# Altium integrated library Altium_SMD_Resister.IntLib: 493 symbols (part 4 of 8)
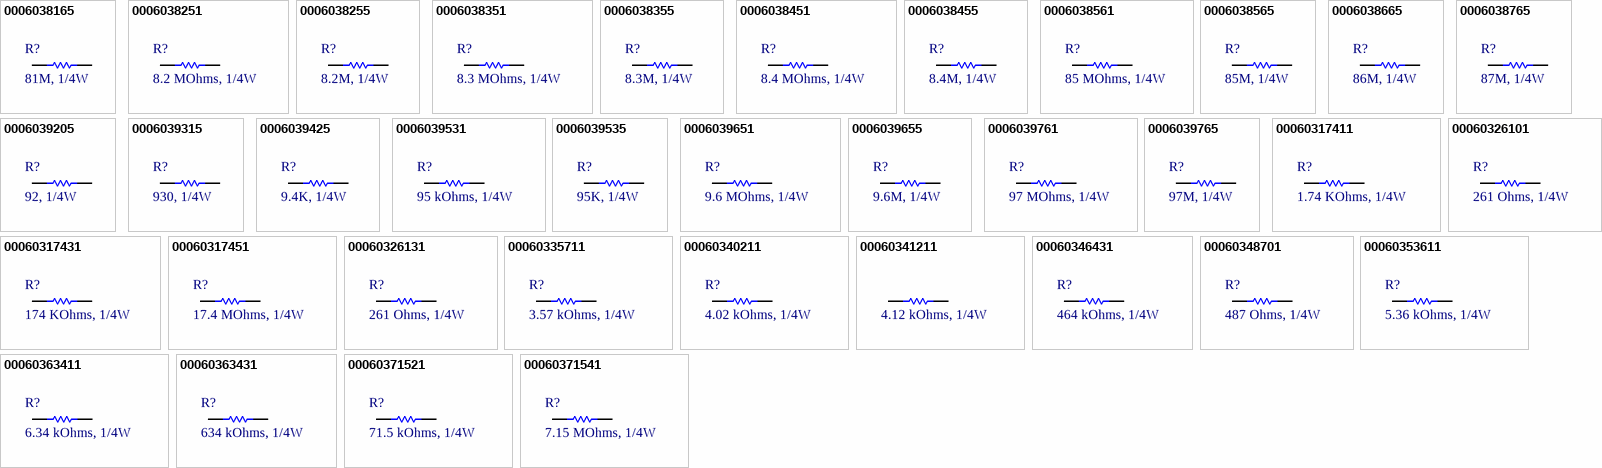
[diagram p15: symbols 0006038165 to 00060371541]

## 00060341211
designator ?, comment 4.12 kOhms, 1/4W
RES, 4.12 kOhms, size 0603, 1%; Manufacture  Name: OEM; Resistance: 4.12 k; Supply 1 Name: Mouser; Supply 1 SN: 71-CRCW0603-4.12K-E3; Supply 2 Name: Digi-Key; Supply 2 SN: 311-4.02KHRTR-ND; Supply 3 Name: Thegioiic; Resistance Tolerant: +/-1%; Size: 0603; Mounting Technology: SMT; Rated Power: 1/4 W; Datasheet: N/A; Supply 1 URL: https://www.mouser.vn/ProductDetail/Vishay-Dale/CRCW06034K12FKEA?qs=7VR27ARAOdnkRSfILZFcCQ%3D%3D; Supply 2 URL: https://www.digikey.com/en/products/detail/yageo/RC0603FR-074K02L/727203; Supply 3 SN: N/A; Supply 3 URL: N/A; Manufacture  SN: OEM
footprint resistor_0603
pins: 1, 2

## 00060346431
designator R?, comment 464 kOhms, 1/4W
RES, 464 kOhms, size 0603, 1%; Manufacture  Name: OEM; Resistance: 464 k; Supply 1 Name: Mouser; Supply 1 SN: 667-ERJ-PA3F4643V; Supply 2 Name: Digi-Key; Supply 2 SN: ERJ-PA3F4643V-ND - Tape & Reel (TR); Supply 3 Name: Thegioiic; Resistance Tolerant: +/-1%; Size: 0603; Mounting Technology: SMT; Rated Power: 1/4 W; Datasheet: https://www.mouser.vn/datasheet/2/315/AOA0000C331-1141874.pdf; Supply 1 URL: https://www.mouser.vn/ProductDetail/Panasonic/ERJ-PA3F4643V?qs=BzJM0faLVqXNplNA4jO3ww%3D%3D; Supply 2 URL: https://www.digikey.com/en/products/detail/panasonic-electronic-components/ERJ-PA3F4643V/5038117?s=N4IgTCBcDaIGxwOwFoCiAlAUsgCgQQGYAxAFjhIIDUQBdAXyA; Supply 3 SN: N/A; Supply 3 URL: N/A; Manufacture  SN: OEM
footprint resistor_0603
pins: 1, 2

## 00060348701
designator R?, comment 487 Ohms, 1/4W
RES, 487 Ohms, size 0603, 1%; Manufacture  Name: OEM; Resistance: 487; Supply 1 Name: Mouser; Supply 1 SN: 667-ERJ-PA3F4870V; Supply 2 Name: Digi-Key; Supply 2 SN: ERJ-PA3F4870V-ND - Tape & Reel (TR); Supply 3 Name: Thegioiic; Resistance Tolerant: +/-1%; Size: 0603; Mounting Technology: SMT; Rated Power: 1/4 W; Datasheet: https://www.mouser.vn/datasheet/2/315/AOA0000C331-1141874.pdf; Supply 1 URL: https://www.mouser.vn/ProductDetail/Panasonic/ERJ-PA3F4870V?qs=BzJM0faLVqXoF%252BFTbHdjOQ%3D%3D; Supply 2 URL: https://www.digikey.com/en/products/detail/panasonic-electronic-components/ERJ-PA3F4870V/5037849?s=N4IgTCBcDaIGxwOwFoCiAlAUsgCgQQGYAxAFgA5EAGANRAF0BfIA; Supply 3 SN: N/A; Supply 3 URL: N/A; Manufacture  SN: OEM
footprint resistor_0603
pins: 1, 2

## 00060353611
designator R?, comment 5.36 kOhms, 1/4W
RES, 5.36 kOhms, size 0603, 1%; Manufacture  Name: OEM; Resistance: 5.36 k; Supply 1 Name: Mouser; Supply 1 SN: 667-ERJ-PA3F5361V; Supply 2 Name: Digi-Key; Supply 2 SN: ERJ-PA3F5361V-ND - Tape & Reel (TR); Supply 3 Name: Thegioiic; Resistance Tolerant: +/-1%; Size: 0603; Mounting Technology: SMT; Rated Power: 1/4 W; Datasheet: https://www.mouser.vn/datasheet/2/315/AOA0000C331-1141874.pdf; Supply 1 URL: https://www.mouser.vn/ProductDetail/Panasonic/ERJ-PA3F5361V?qs=BzJM0faLVqV9HycZG6PMVQ%3D%3D; Supply 2 URL: https://www.digikey.com/en/products/detail/panasonic-electronic-components/ERJ-PA3F5361V/5037943?s=N4IgTCBcDaIGxwOwFoCiAlAUsgCgQQGYAxAVgLgEYA1EAXQF8g; Supply 3 SN: N/A; Supply 3 URL: N/A; Manufacture  SN: OEM
footprint resistor_0603
pins: 1, 2

## 00060363411
designator R?, comment 6.34 kOhms, 1/4W
RES, 6.34 kOhms, size 0603, 1%; Manufacture  Name: OEM; Resistance: 6.34 k; Supply 1 Name: Mouser; Supply 1 SN: 652-CR0805FX-6341ELF; Supply 2 Name: Digi-Key; Supply 2 SN: 311-6.34KHRTR-ND; Supply 3 Name: Thegioiic; Resistance Tolerant: +/-1%; Size: 0603; Mounting Technology: SMT; Rated Power: 1/4 W; Datasheet: N/A; Supply 1 URL: https://www.mouser.vn/ProductDetail/Bourns/CR0805-FX-6341ELF?qs=LA9FZBosJlAK7SMOW8nAHg%3D%3D; Supply 2 URL: https://www.digikey.com/en/products/detail/yageo/RC0603FR-076K34L/727320; Supply 3 SN: N/A; Supply 3 URL: N/A; Manufacture  SN: OEM
footprint resistor_0603
pins: 1, 2

## 00060363431
designator R?, comment 634 kOhms, 1/4W
RES, 634 kOhms, size 0603, 1%; Manufacture  Name: OEM; Resistance: 634 k; Supply 1 Name: Mouser; Supply 1 SN: 652-CR0805FX-6343ELF; Supply 2 Name: Digi-Key; Supply 2 SN: 311-634KHRTR-ND; Supply 3 Name: Thegioiic; Resistance Tolerant: +/-1%; Size: 0603; Mounting Technology: SMT; Rated Power: 1/4 W; Datasheet: N/A; Supply 1 URL: https://www.mouser.vn/ProductDetail/Bourns/CR0805-FX-6343ELF?qs=LA9FZBosJlBAKVRC2OUkqw%3D%3D; Supply 2 URL: https://www.digikey.com/en/products/detail/yageo/RC0603FR-07634KL/727342; Supply 3 SN: N/A; Supply 3 URL: N/A; Manufacture  SN: OEM
footprint resistor_0603
pins: 1, 2

## 00060371521
designator R?, comment 71.5 kOhms, 1/4W
RES, 71.5 kOhms, size 0603, 1%; Manufacture  Name: OEM; Resistance: 71.5 k; Supply 1 Name: Mouser; Supply 2 Name: Digi-Key; Supply 2 SN: 311-71.5KHRTR-ND; Supply 3 Name: Thegioiic; Resistance Tolerant: +/-1%; Size: 0603; Mounting Technology: SMT; Rated Power: 1/4 W; Datasheet: N/A; Supply 1 SN: N/A; Supply 1 URL: N/A; Supply 2 URL: https://www.digikey.com/en/products/detail/yageo/RC0603FR-0771K5L/727370; Supply 3 SN: N/A; Supply 3 URL: N/A; Manufacture  SN: OEM
footprint resistor_0603
pins: 1, 2

## 00060371541
designator R?, comment 7.15 MOhms, 1/4W
RES, 7.15 MOhms, size 0603, 1%; Manufacture  Name: OEM; Resistance: 7.15 M; Supply 1 Name: Mouser; Supply 1 SN: 603-RC0201FR-077M15L; Supply 2 Name: Digi-Key; Supply 2 SN: 541-7.15MHTR-ND; Supply 3 Name: Thegioiic; Resistance Tolerant: +/-1%; Size: 0603; Mounting Technology: SMT; Rated Power: 1/4 W; Datasheet: N/A; Supply 1 URL: https://www.mouser.vn/ProductDetail/YAGEO/RC0201FR-077M15L?qs=lc2O%252BfHJPVagYgggyyCiyg%3D%3D; Supply 2 URL: https://www.digikey.com/en/products/detail/vishay-dale/CRCW06037M15FKEA/1175108; Supply 3 SN: N/A; Supply 3 URL: N/A; Manufacture  SN: OEM
footprint resistor_0603
pins: 1, 2


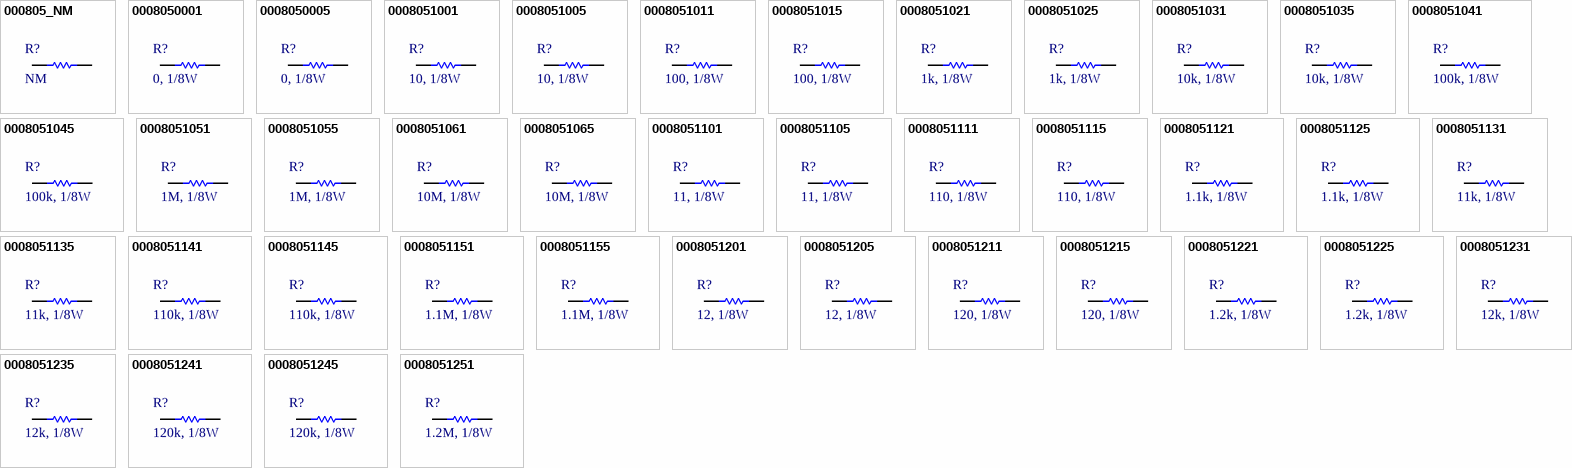
[diagram p6: symbols 000805_NM to 0008051251]

## 000805_NM
designator R?, comment NM
RES, NM, size 0805; Rated Power: 1/8 W; Supply 1 Name: Mouser; Supply 2 Name: Digi-Key; Supply 3 Name: Thegioiic; Resistance tolerance: N/A; Size: 0805; Mounting Technology: SMT; Datasheet: N/A; Resistance: N/A; Supply 1 SN: N/A; Supply 1 URL: N/A; Supply 2 SN: N/A; Supply 2 URL: N/A; Supply 3 SN: N/A; Supply 3 URL: N/A; Manufacture  Name: N/A; Manufacture  SN: N/A
footprint RESISTOR_0805 (Chip Resistor, 2-Leads, Body 2,00x1,20mm, IPC Medium Density)
pins: 1, 2

## 0008050001
designator R?, comment 0, 1/8W
RES, 0 Ohm, size 0805, 1%; Manufacture  Name: YAGEO; Manufacture  SN: RC0805FR-070RL; Resistance tolerance: +/-1%; Resistance: 0; Supply 1 Name: Mouser; Supply 1 SN: 603-RC0805FR-070RL; Supply 2 Name: Digi-Key; Supply 2 SN: 311-0.0CRTR-ND; Supply 3 Name: Thegioiic; Size: 0805; Mounting Technology: SMT; Rated Power: 1/8 W; Datasheet: N/A; Supply 1 URL: https://www.mouser.com/ProductDetail/YAGEO/RC0805FR-070RL?qs=fRxXYNj8ftF6kXqh1XbZJQ%3D%3D; Supply 2 URL: https://www.digikey.com/en/products/detail/yageo/rc0805fr-070rl/2827620; Supply 3 SN: N/A; Supply 3 URL: https://www.thegioiic.com/dien-tro-0-ohm-0805-1-
footprint RESISTOR_0805 (Chip Resistor, 2-Leads, Body 2,00x1,20mm, IPC Medium Density)
pins: 1, 2

## 0008050005
designator R?, comment 0, 1/8W
RES, 0 Ohm, size 0805, 5%; Manufacture  Name: YAGEO; Manufacture  SN: RC0805JR-070RL; Resistance tolerance: +/-1%; Resistance: 0; Supply 1 Name: Mouser; Supply 1 SN: 603-RC0805JR-070RL; Supply 2 Name: Digi-Key; Supply 2 SN: 311-0.0ARTR-ND; Supply 3 Name: Thegioiic; Size: 0805; Mounting Technology: SMT; Rated Power: 1/8 W; Datasheet: https://www.mouser.com/datasheet/2/447/PYu_AR_51_RoHS_L_7-3003081.pdf; Supply 1 URL: https://www.mouser.com/ProductDetail/YAGEO/RC0805JR-070RL?qs=3ldFlDWnkKyEhdaPjQHEFA%3D%3D; Supply 2 URL: https://www.digikey.com/en/products/detail/yageo/rc0805jr-070rl/728216; Supply 3 SN: N/A; Supply 3 URL: https://www.thegioiic.com/dien-tro-0-ohm-0805-5-
footprint RESISTOR_0805 (Chip Resistor, 2-Leads, Body 2,00x1,20mm, IPC Medium Density)
pins: 1, 2

## 0008051001
designator R?, comment 10, 1/8W
RES, 10 Ohm, size 0805, 1%; Manufacture  Name: Vishay Dale Thin Film; Manufacture  SN: M55342H06B10D0RT5; Resistance tolerance: +/-1%; Resistance: 10; Supply 1 Name: Mouser; Supply 1 SN: 71-CRCW080510R0FKEAH; Supply 2 Name: Digi-Key; Supply 2 SN: 764-M55342H06B10D0RT5TR-ND; Supply 3 Name: Thegioiic; Size: 0805; Mounting Technology: SMT; Rated Power: 1/8 W; Datasheet: https://www.vishay.com/docs/60018/eh.pdf; Supply 1 URL: https://www.mouser.vn/ProductDetail/Vishay-Dale/CRCW080510R0FKEAHP?qs=sGAEpiMZZMtlubZbdhIBIB2QTI7Ai3Wq221SUXRDybo%3D; Supply 2 URL: https://www.digikey.com/en/products/detail/vishay-dale-thin-film/M55342H06B10D0RT5/3580812; Supply 3 SN: N/A; Supply 3 URL: https://www.thegioiic.com/dien-tro-10-ohm-0805-1-
footprint RESISTOR_0805 (Chip Resistor, 2-Leads, Body 2,00x1,20mm, IPC Medium Density)
pins: 1, 2

## 0008051005
designator R?, comment 10, 1/8W
RES, 10 Ohm, size 0805, 5%; Manufacture  Name: TE Connectivity Passive Product; Manufacture  SN: CRGCQ0805J10R; Resistance tolerance: +/-5%; Resistance: 10; Supply 1 Name: Mouser; Supply 1 SN: 71-CRCW080510R0JNEB; Supply 2 Name: Digi-Key; Supply 2 SN: A130122TR-ND; Supply 3 Name: Thegioiic; Size: 0805; Mounting Technology: SMT; Rated Power: 1/8 W; Datasheet: https://www.te.com/usa-en/product-2176342-7.datasheet.pdf; Supply 1 URL: https://www.mouser.vn/ProductDetail/Vishay-Dale/CRCW080510R0JNEB?qs=LOX6nxTstiYdzgklIYN6GQ%3D%3D; Supply 2 URL: https://www.digikey.com/en/products/detail/vishay-dale-thin-film/M55342H06B10D0RT5/3580812; Supply 3 SN: N/A; Supply 3 URL: https://www.thegioiic.com/dien-tro-10-ohm-0805-5-
footprint RESISTOR_0805 (Chip Resistor, 2-Leads, Body 2,00x1,20mm, IPC Medium Density)
pins: 1, 2

## 0008051011
designator R?, comment 100, 1/8W
RES, 100 Ohm, size 0805, 1%; Manufacture  Name: Vishay Dale Thin Film; Manufacture  SN: CRCW0805100RFKEB; Resistance tolerance: +/-1%; Resistance: 100; Supply 1 Name: Mouser; Supply 1 SN: 71-CRCW0805100RFKEB; Supply 2 Name: Digi-Key; Supply 2 SN: Y1624100R000F9R-ND; Supply 3 Name: Thegioiic; Size: 0805; Mounting Technology: SMT; Rated Power: 1/8 W; Datasheet: https://media.digikey.com/pdf/Data%20Sheets/Vishay%20Resistors/VSMP_Series_Z_Series_DS.pdf; Supply 1 URL: https://www.mouser.vn/ProductDetail/Vishay-Dale/CRCW0805100RFKEB?qs=sGAEpiMZZMtlubZbdhIBIKpw3Cj3Rl3MFHVHXIgVmtw%3D; Supply 2 URL: https://www.digikey.com/en/products/detail/vpg-foil-resistors/Y1624100R000F9R/6026579; Supply 3 SN: N/A; Supply 3 URL: https://www.thegioiic.com/dien-tro-100-ohm-0805-1-
footprint RESISTOR_0805 (Chip Resistor, 2-Leads, Body 2,00x1,20mm, IPC Medium Density)
pins: 1, 2

## 0008051015
designator R?, comment 100, 1/8W
RES, 100 Ohm, size 0805, 5%; Manufacture  Name: Vishay Dale; Manufacture  SN: CRCW0805100RJNEAC; Resistance tolerance: +/-5%; Resistance: 100; Supply 1 Name: Mouser; Supply 1 SN: 71-CRCW0805100RJNEA; Supply 2 Name: Digi-Key; Supply 2 SN: 541-4166-2-ND; Supply 3 Name: Thegioiic; Size: 0805; Mounting Technology: SMT; Rated Power: 1/8 W; Datasheet: https://www.vishay.com/docs/28773/crcwce3.pdf; Supply 1 URL: https://www.mouser.vn/ProductDetail/Vishay-Dale/CRCW0805100RJNEA?qs=LOX6nxTstiYU5x3Np6dR5Q%3D%3D; Supply 2 URL: https://www.digikey.com/en/products/detail/vishay-dale/CRCW0805100RJNEAC/7928588; Supply 3 SN: N/A; Supply 3 URL: https://www.thegioiic.com/dien-tro-100-ohm-0805-5
footprint RESISTOR_0805 (Chip Resistor, 2-Leads, Body 2,00x1,20mm, IPC Medium Density)
pins: 1, 2

## 0008051021
designator R?, comment 1k, 1/8W
RES, 1k Ohm, size 0805, 1%; Manufacture  Name: Vishay Dale; Manufacture  SN: M55342K06B1E00RS3; Resistance tolerance: +/-1%; Supply 1 Name: Mouser; Supply 2 Name: Digi-Key; Supply 2 SN: 1135-1001-2-ND; Supply 3 Name: Thegioiic; Size: 0805; Mounting Technology: SMT; Rated Power: 1/8 W; Datasheet: https://www.vishay.com/docs/31010/rcwpm.pdf; Resistance: 1k; Supply 1 SN: N/A; Supply 1 URL: N/A; Supply 2 URL: https://www.digikey.com/en/products/detail/vishay-dale/M55342K06B1E00RS3/2941798; Supply 3 SN: N/A; Supply 3 URL: https://www.thegioiic.com/dien-tro-1-kohm-0805-1
footprint RESISTOR_0805 (Chip Resistor, 2-Leads, Body 2,00x1,20mm, IPC Medium Density)
pins: 1, 2

## 0008051025
designator R?, comment 1k, 1/8W
RES, 1k Ohm, size 0805, 5%; Manufacture  Name: Vishay Dale; Manufacture  SN: CRCW08051K00JNEAC; Resistance tolerance: +/-5%; Supply 1 Name: Mouser; Supply 1 SN: 71-CRCW08051K00JNEC; Supply 2 Name: Digi-Key; Supply 2 SN: 541-4162-2-ND; Supply 3 Name: Thegioiic; Size: 0805; Mounting Technology: SMT; Rated Power: 1/8 W; Datasheet: https://www.vishay.com/docs/28773/crcwce3.pdf; Resistance: 1k; Supply 1 URL: https://www.mouser.vn/ProductDetail/Vishay-Dale/CRCW08051K00JNEC?qs=OW6ROCK%252BaiZqKFsNe9zjFw%3D%3D; Supply 2 URL: https://www.digikey.com/en/products/detail/vishay-dale/CRCW08051K00JNEAC/7928584; Supply 3 SN: N/A; Supply 3 URL: https://www.thegioiic.com/dien-tro-1-kohm-0805-5-
footprint RESISTOR_0805 (Chip Resistor, 2-Leads, Body 2,00x1,20mm, IPC Medium Density)
pins: 1, 2

## 0008051031
designator R?, comment 10k, 1/8W
RES, 10k Ohm, size 0805, 1%; Resistance tolerance: +/-1%; Supply 1 Name: Mouser; Supply 2 Name: Digi-Key; Supply 3 Name: Thegioiic; Size: 0805; Mounting Technology: SMT; Rated Power: 1/8 W; Datasheet: N/A; Resistance: 10k; Supply 1 SN: N/A; Supply 1 URL: N/A; Supply 2 SN: N/A; Supply 2 URL: N/A; Supply 3 SN: N/A; Supply 3 URL: https://www.thegioiic.com/dien-tro-1-kohm-0805-1; Manufacture  Name: N/A; Manufacture  SN: N/A
footprint RESISTOR_0805 (Chip Resistor, 2-Leads, Body 2,00x1,20mm, IPC Medium Density)
pins: 1, 2

## 0008051035
designator R?, comment 10k, 1/8W
RES, 10k Ohm, size 0805, 5%; Manufacture  Name: Vishay Dale; Manufacture  SN: CRCW080510K0JNEAC; Resistance tolerance: +/-5%; Supply 1 Name: Mouser; Supply 1 SN: 71-CRCW080510K0JNEB; Supply 2 Name: Digi-Key; Supply 2 SN: 541-4163-2-ND; Supply 3 Name: Thegioiic; Size: 0805; Mounting Technology: SMT; Rated Power: 1/8 W; Datasheet: https://www.vishay.com/docs/28773/crcwce3.pdf; Resistance: 10k; Supply 1 URL: https://www.mouser.vn/ProductDetail/Vishay-Dale/CRCW080510K0JNEB?qs=LOX6nxTstiZ5fn9YUdHx5A%3D%3D; Supply 2 URL: https://www.digikey.com/en/products/detail/vishay-dale/CRCW080510K0JNEAC/7928585; Supply 3 SN: N/A; Supply 3 URL: N/A
footprint RESISTOR_0805 (Chip Resistor, 2-Leads, Body 2,00x1,20mm, IPC Medium Density)
pins: 1, 2

## 0008051041
designator R?, comment 100k, 1/8W
RES, 100k Ohm, size 0805, 1%; Manufacture  Name: Vishay Dale; Manufacture  SN: M55342K06B100ERS3; Resistance tolerance: +/-1%; Supply 1 Name: Mouser; Supply 2 Name: Digi-Key; Supply 2 SN: 1135-1002-2-ND; Supply 3 Name: Thegioiic; Size: 0805; Mounting Technology: SMT; Rated Power: 1/8 W; Datasheet: N/A; Resistance: 100k; Supply 1 SN: N/A; Supply 1 URL: N/A; Supply 2 URL: https://www.digikey.com/en/products/detail/vishay-dale/M55342K06B100ERS3/2941800; Supply 3 SN: N/A; Supply 3 URL: M55342K06B100ERS3
footprint RESISTOR_0805 (Chip Resistor, 2-Leads, Body 2,00x1,20mm, IPC Medium Density)
pins: 1, 2

## 0008051045
designator R?, comment 100k, 1/8W
RES, 100k Ohm, size 0805, 5%; Manufacture  Name: Vishay Dale; Manufacture  SN: CRCW0805100KJNEAC; Resistance tolerance: +/-5%; Supply 1 Name: Mouser; Supply 1 SN: 71-CRCW0805100KJNEC; Supply 2 Name: Digi-Key; Supply 2 SN: 541-4164-2-ND; Supply 3 Name: Thegioiic; Size: 0805; Mounting Technology: SMT; Rated Power: 1/8 W; Datasheet: https://www.vishay.com/docs/28773/crcwce3.pdf; Resistance: 100k; Supply 1 URL: https://www.mouser.vn/ProductDetail/Vishay-Dale/CRCW0805100KJNEC?qs=waxnFHLl2hDcBYyAQZ2bVA%3D%3D; Supply 2 URL: https://www.digikey.com/en/products/detail/vishay-dale/CRCW0805100KJNEAC/7928586; Supply 3 SN: N/A; Supply 3 URL: M55342K06B100ERS3
footprint RESISTOR_0805 (Chip Resistor, 2-Leads, Body 2,00x1,20mm, IPC Medium Density)
pins: 1, 2

## 0008051051
designator R?, comment 1M, 1/8W
RES, 1M Ohm, size 0805, 1%; Manufacture  Name: Vishay Dale; Manufacture  SN: M55342K06B1F00RS3; Resistance tolerance: +/-1%; Supply 1 Name: Mouser; Supply 2 Name: Digi-Key; Supply 2 SN: 1135-1009-2-ND; Supply 3 Name: Thegioiic; Size: 0805; Mounting Technology: SMT; Rated Power: 1/8 W; Datasheet: N/A; Resistance: 1M; Supply 1 SN: N/A; Supply 1 URL: N/A; Supply 2 URL: https://www.digikey.com/en/products/detail/vishay-dale/M55342K06B1F00RS3/2941807?s=N4IgjCBcoMxaBjKAzAhgGwM4FMA0IB7KAbXDBggF18AHAFyhAGU6AnASwDsBzEAX3xgAbPBBJIaLHkIkQMAJwwATPJDUQ9Riw49%2B%2BACwjoYlBhz4ikUgA4A7MrW0GkZmy68BIJQAZrAVlFxSXMZK3AAAgBZAHkACwBbTEcNZxAAVU52OmjkSOxUTABXVmx%2BPj4gA; Supply 3 SN: N/A; Supply 3 URL: https://www.thegioiic.com/dien-tro-1-mohm-0805-1
footprint RESISTOR_0805 (Chip Resistor, 2-Leads, Body 2,00x1,20mm, IPC Medium Density)
pins: 1, 2

## 0008051055
designator R?, comment 1M, 1/8W
RES, 1M Ohm, size 0805, 5%; Manufacture  Name: Vishay Dale; Manufacture  SN: CRCW08051M00JNEAC; Resistance tolerance: +/-5%; Supply 1 Name: Mouser; Supply 1 SN: 71-CRCW0805J-1M-E3; Supply 2 Name: Digi-Key; Supply 2 SN: 541-CRCW08051M00JNEACTR-ND; Supply 3 Name: Thegioiic; Size: 0805; Mounting Technology: SMT; Rated Power: 1/8 W; Datasheet: https://www.vishay.com/docs/28773/crcwce3.pdf; Resistance: 1M; Supply 1 URL: https://www.mouser.vn/ProductDetail/Vishay-Dale/CRCW08051M00JNEA?qs=1CkV0QOCgMqcQMPfmcgFvg%3D%3D; Supply 2 URL: https://www.digikey.com/en/products/detail/vishay-dale/CRCW08051M00JNEAC/7923683; Supply 3 SN: N/A; Supply 3 URL: https://www.thegioiic.com/dien-tro-1-mohm-0805-5
footprint RESISTOR_0805 (Chip Resistor, 2-Leads, Body 2,00x1,20mm, IPC Medium Density)
pins: 1, 2

## 0008051061
designator R?, comment 10M, 1/8W
RES, 10M Ohm, size 0805, 1%; Manufacture  Name: Vishay Dale; Manufacture  SN: CRCW08051M00FKEAC; Resistance tolerance: +/-1%; Supply 1 Name: Mouser; Supply 2 Name: Digi-Key; Supply 2 SN: 541-4135-2-ND; Supply 3 Name: Thegioiic; Size: 0805; Mounting Technology: SMT; Rated Power: 1/8 W; Datasheet: https://www.vishay.com/docs/28773/crcwce3.pdf; Resistance: 10M; Supply 1 SN: N/A; Supply 1 URL: N/A; Supply 2 URL: https://www.digikey.com/en/products/detail/vishay-dale/CRCW08051M00FKEAC/7928557; Supply 3 SN: N/A; Supply 3 URL: https://www.digikey.com/en/products/detail/vishay-dale/CRCW08051M00FKEAC/7928557
footprint RESISTOR_0805 (Chip Resistor, 2-Leads, Body 2,00x1,20mm, IPC Medium Density)
pins: 1, 2

## 0008051065
designator R?, comment 10M, 1/8W
RES, 10M Ohm, size 0805, 5%; Manufacture  Name: Vishay Dale; Manufacture  SN: CRCW080510M0JNEA; Resistance tolerance: +/-5%; Supply 1 Name: Mouser; Supply 1 SN: 71-RCV080510M0JNEA; Supply 2 Name: Digi-Key; Supply 2 SN: 541-10MATR-ND; Supply 3 Name: Thegioiic; Size: 0805; Mounting Technology: SMT; Rated Power: 1/8 W; Datasheet: https://www.vishay.com/docs/20035/dcrcwe3.pdf; Resistance: 10M; Supply 1 URL: https://www.mouser.vn/ProductDetail/Vishay-Draloric/RCV080510M0JNEA?qs=%252BZJHVReOaHr6BtmMLn%2FzAw%3D%3D; Supply 2 URL: https://www.digikey.com/en/products/detail/vishay-dale/CRCW080510M0JNEA/1175294; Supply 3 SN: N/A; Supply 3 URL: https://www.digikey.com/en/products/detail/vishay-dale/CRCW080510M0JNEA/1175294
footprint RESISTOR_0805 (Chip Resistor, 2-Leads, Body 2,00x1,20mm, IPC Medium Density)
pins: 1, 2

## 0008051101
designator R?, comment 11, 1/8W
RES, 11 Ohm, size 0805, 1%; Manufacture  Name: Vishay Dale; Manufacture  SN: CRCW080511R0FKTA; Resistance tolerance: +/-1%; Resistance: 11; Supply 1 Name: Mouser; Supply 1 SN: 71-CRCW0805-11; Supply 2 Name: Digi-Key; Supply 2 SN: 541-11.0CTR-ND; Supply 3 Name: Thegioiic; Size: 0805; Mounting Technology: SMT; Rated Power: 1/8 W; Datasheet: https://www.vishay.com/docs/20035/dcrcwe3.pdf; Supply 1 URL: https://www.mouser.vn/ProductDetail/Vishay-Dale/CRCW080511R0FKTA?qs=ZOFh%252BZEbFTDhCA9Hrh30Zw%3D%3D; Supply 2 URL: https://www.digikey.com/en/products/detail/vishay-dale/CRCW080511R0FKEA/1175413; Supply 3 SN: N/A; Supply 3 URL: N/A
footprint RESISTOR_0805 (Chip Resistor, 2-Leads, Body 2,00x1,20mm, IPC Medium Density)
pins: 1, 2

## 0008051105
designator R?, comment 11, 1/8W
RES, 11 Ohm, size 0805, 5%; Manufacture  Name: Vishay Dale; Manufacture  SN: CRCW080511R0JNEAC; Resistance tolerance: +/-5%; Resistance: 11; Supply 1 Name: Mouser; Supply 1 SN: 71-CRCW080511R0JNEA; Supply 2 Name: Digi-Key; Supply 2 SN: CRCW080511R0JNEAC-ND; Supply 3 Name: Thegioiic; Size: 0805; Mounting Technology: SMT; Rated Power: 1/8 W; Datasheet: https://www.vishay.com/docs/28773/crcwce3.pdf; Supply 1 URL: https://www.mouser.vn/ProductDetail/Vishay-Dale/CRCW080511R0JNEA?qs=RG5hTW80OZI1ijzqZ4Fwzg%3D%3D; Supply 2 URL: https://www.digikey.com/en/products/detail/vishay-dale/CRCW080511R0JNEAC/7923816; Supply 3 SN: N/A; Supply 3 URL: https://www.thegioiic.com/dien-tro-11-ohm-0805-5-
footprint RESISTOR_0805 (Chip Resistor, 2-Leads, Body 2,00x1,20mm, IPC Medium Density)
pins: 1, 2

## 0008051111
designator R?, comment 110, 1/8W
RES, 110 Ohm, size 0805, 1%; Manufacture  Name: Vishay Dale; Manufacture  SN: CRCW0805110RFKEA; Resistance tolerance: +/-1%; Resistance: 110; Supply 1 Name: Mouser; Supply 1 SN: 71-CRCW0805110RFKEAC; Supply 2 Name: Digi-Key; Supply 2 SN: 541-110CTR-ND; Supply 3 Name: Thegioiic; Size: 0805; Mounting Technology: SMT; Rated Power: 1/8 W; Datasheet: https://www.vishay.com/docs/20035/dcrcwe3.pdf; Supply 1 URL: https://www.mouser.vn/ProductDetail/Vishay-Dale/CRCW0805110RFKEAC?qs=E3Y5ESvWgWMNpf%252BYjZabPQ%3D%3D; Supply 2 URL: https://www.digikey.com/en/products/detail/vishay-dale/CRCW0805110RFKEA/1175527; Supply 3 SN: N/A; Supply 3 URL: N/A
footprint RESISTOR_0805 (Chip Resistor, 2-Leads, Body 2,00x1,20mm, IPC Medium Density)
pins: 1, 2

## 0008051115
designator R?, comment 110, 1/8W
RES, 110 Ohm, size 0805, 5%; Manufacture  Name: Vishay Dale; Manufacture  SN: CRCW0805110RFKEA; Resistance tolerance: +/-5%; Resistance: 110; Supply 1 Name: Mouser; Supply 1 SN: 71-CRCW0805110RJNEA; Supply 2 Name: Digi-Key; Supply 2 SN: 541-110ATR-ND; Supply 3 Name: Thegioiic; Size: 0805; Mounting Technology: SMT; Rated Power: 1/8 W; Datasheet: https://www.vishay.com/docs/20035/dcrcwe3.pdf; Supply 1 URL: https://www.mouser.vn/ProductDetail/Vishay-Dale/CRCW0805110RJNEA?qs=RG5hTW80OZJqHt0GVT%2FlyA%3D%3D; Supply 2 URL: https://www.digikey.com/en/products/detail/vishay-dale/CRCW0805110RJNEA/1175175; Supply 3 SN: N/A; Supply 3 URL: https://www.thegioiic.com/dien-tro-110-kohm-0805-5
footprint RESISTOR_0805 (Chip Resistor, 2-Leads, Body 2,00x1,20mm, IPC Medium Density)
pins: 1, 2

## 0008051121
designator R?, comment 1.1k, 1/8W
RES, 1.1k Ohm, size 0805, 1%; Manufacture  Name: Vishay Dale; Manufacture  SN: CRCW08051K10FKEAC; Resistance tolerance: +/-1%; Supply 1 Name: Mouser; Supply 1 SN: 71-CRCW0805-1.1K; Supply 2 Name: Digi-Key; Supply 2 SN: 541-CRCW08051K10FKEACTR-ND; Supply 3 Name: Thegioiic; Size: 0805; Mounting Technology: SMT; Rated Power: 1/8 W; Datasheet: https://www.vishay.com/docs/28773/crcwce3.pdf; Resistance: 1.1k; Supply 1 URL: https://www.mouser.vn/ProductDetail/Vishay-Dale/CRCW08051K10FKTA?qs=kcr0bk%252BxakCLwlR%2FUomifg%3D%3D; Supply 2 URL: https://www.digikey.com/en/products/detail/vishay-dale/CRCW08051K10FKEAC/7922296; Supply 3 SN: N/A; Supply 3 URL: N/A
footprint RESISTOR_0805 (Chip Resistor, 2-Leads, Body 2,00x1,20mm, IPC Medium Density)
pins: 1, 2

## 0008051125
designator R?, comment 1.1k, 1/8W
RES, 1.1k Ohm, size 0805, 5%; Manufacture  Name: Vishay Dale; Manufacture  SN: CRCW08051K10JNEA; Resistance tolerance: +/-5%; Supply 1 Name: Mouser; Supply 1 SN: 71-CRCW08051K10JNEA; Supply 2 Name: Digi-Key; Supply 2 SN: 541-1.1KATR-ND; Supply 3 Name: Thegioiic; Size: 0805; Mounting Technology: SMT; Rated Power: 1/8 W; Datasheet: https://www.vishay.com/docs/28773/crcwce3.pdf; Resistance: 1.1k; Supply 1 URL: https://www.mouser.vn/ProductDetail/Vishay-Dale/CRCW08051K10JNEA?qs=DZvKvnD5UYUcTcO5Q3S%252BBw%3D%3D; Supply 2 URL: https://www.digikey.com/en/products/detail/vishay-dale/CRCW08051K10JNEA/1175199; Supply 3 SN: N/A; Supply 3 URL: https://www.thegioiic.com/dien-tro-1-1-kohm-0805-5
footprint RESISTOR_0805 (Chip Resistor, 2-Leads, Body 2,00x1,20mm, IPC Medium Density)
pins: 1, 2

## 0008051131
designator R?, comment 11k, 1/8W
RES, 11k Ohm, size 0805, 1%; Manufacture  Name: Vishay Dale; Manufacture  SN: CRCW080511K0FKEA; Resistance tolerance: +/-1%; Supply 1 Name: Mouser; Supply 1 SN: 71-CRCW0805-11K-E3; Supply 2 Name: Digi-Key; Supply 2 SN: 541-11.0KCTR-ND; Supply 3 Name: Thegioiic; Size: 0805; Mounting Technology: SMT; Rated Power: 1/8 W; Datasheet: N/A; Resistance: 11k; Supply 1 URL: https://www.mouser.vn/ProductDetail/Vishay-Dale/CRCW080511K0FKEA?qs=RG5hTW80OZLEp%2FQ5LVKZyw%3D%3D; Supply 2 URL: https://www.digikey.com/en/products/detail/vishay-dale/CRCW080511K0FKEA/1175755; Supply 3 SN: N/A; Supply 3 URL: N/A
footprint RESISTOR_0805 (Chip Resistor, 2-Leads, Body 2,00x1,20mm, IPC Medium Density)
pins: 1, 2

## 0008051135
designator R?, comment 11k, 1/8W
RES, 11k Ohm, size 0805, 5%; Manufacture  Name: Vishay Dale; Manufacture  SN: CRCW080511K0JNEA; Resistance tolerance: +/-5%; Supply 1 Name: Mouser; Supply 1 SN: 71-CRCW0805J-11K-E3; Supply 2 Name: Digi-Key; Supply 2 SN: 541-11KATR-ND; Supply 3 Name: Thegioiic; Size: 0805; Mounting Technology: SMT; Rated Power: 1/8 W; Datasheet: https://www.vishay.com/docs/20035/dcrcwe3.pdf; Resistance: 11k; Supply 1 URL: https://www.mouser.vn/ProductDetail/Vishay-Dale/CRCW080511K0JNEA?qs=RG5hTW80OZLjmZsjWPwJOg%3D%3D; Supply 2 URL: https://www.digikey.com/en/products/detail/vishay-dale/CRCW080511K0JNEA/1175223; Supply 3 SN: N/A; Supply 3 URL: https://www.thegioiic.com/dien-tro-11-kohm-0805-5
footprint RESISTOR_0805 (Chip Resistor, 2-Leads, Body 2,00x1,20mm, IPC Medium Density)
pins: 1, 2

## 0008051141
designator R?, comment 110k, 1/8W
RES, 110k Ohm, size 0805, 1%; Manufacture  Name: Vishay Dale; Manufacture  SN: CRCW0805110KFKEAC; Resistance tolerance: +/-1%; Supply 1 Name: Mouser; Supply 1 SN: 71-CRCW0805-110K; Supply 2 Name: Digi-Key; Supply 2 SN: 541-CRCW0805110KFKEACTR-ND; Supply 3 Name: Thegioiic; Size: 0805; Mounting Technology: SMT; Rated Power: 1/8 W; Datasheet: https://www.vishay.com/docs/28773/crcwce3.pdf; Resistance: 110k; Supply 1 URL: https://www.mouser.vn/ProductDetail/Vishay-Dale/CRCW0805110KFKTA?qs=lAAKfumqcshWZsupBauqGw%3D%3D; Supply 2 URL: https://www.digikey.com/en/products/detail/vishay-dale/CRCW0805110KFKEAC/7922420; Supply 3 SN: N/A; Supply 3 URL: https://www.thegioiic.com/dien-tro-110-kohm-0805-1-
footprint RESISTOR_0805 (Chip Resistor, 2-Leads, Body 2,00x1,20mm, IPC Medium Density)
pins: 1, 2

## 0008051145
designator R?, comment 110k, 1/8W
RES, 110k Ohm, size 0805, 5%; Manufacture  Name: Vishay Dale; Manufacture  SN: CRCW0805110KJNEAC; Resistance tolerance: +/-5%; Supply 1 Name: Mouser; Supply 1 SN: 71-CRCW0805110KJNEA; Supply 2 Name: Digi-Key; Supply 2 SN: CRCW0805110KJNEAC-ND; Supply 3 Name: Thegioiic; Size: 0805; Mounting Technology: SMT; Rated Power: 1/8 W; Datasheet: https://www.vishay.com/docs/28773/crcwce3.pdf; Resistance: 110k; Supply 1 URL: https://www.mouser.vn/ProductDetail/Vishay-Dale/CRCW0805110KJNEA?qs=LOX6nxTstiYWgn0ISge4KA%3D%3D; Supply 2 URL: https://www.digikey.com/en/products/detail/vishay-dale/CRCW0805110KJNEAC/7923811; Supply 3 SN: N/A; Supply 3 URL: https://www.thegioiic.com/dien-tro-110-kohm-0805-5
footprint RESISTOR_0805 (Chip Resistor, 2-Leads, Body 2,00x1,20mm, IPC Medium Density)
pins: 1, 2

## 0008051151
designator R?, comment 1.1M, 1/8W
RES, 1.1M Ohm, size 0805, 1%; Manufacture  Name: Vishay Dale; Manufacture  SN: CRCW08051M10FKEA; Resistance tolerance: +/-1%; Supply 1 Name: Mouser; Supply 1 SN: 71-CRCW08051M10FKEA; Supply 2 Name: Digi-Key; Supply 2 SN: 541-1.10MCTR-ND; Supply 3 Name: Thegioiic; Size: 0805; Mounting Technology: SMT; Rated Power: 1/8 W; Datasheet: https://www.vishay.com/docs/20035/dcrcwe3.pdf; Resistance: 1.1M; Supply 1 URL: https://www.mouser.vn/ProductDetail/Vishay-Dale/CRCW08051M10FKEA?qs=1CkV0QOCgMonU8HVfJOxww%3D%3D; Supply 2 URL: https://www.digikey.com/en/products/detail/vishay-dale/CRCW08051M10FKEA/1176020; Supply 3 SN: N/A; Supply 3 URL: N/A
footprint RESISTOR_0805 (Chip Resistor, 2-Leads, Body 2,00x1,20mm, IPC Medium Density)
pins: 1, 2

## 0008051155
designator R?, comment 1.1M, 1/8W
RES, 1.1M Ohm, size 0805, 5%; Manufacture  Name: Vishay Dale; Manufacture  SN: CRCW08051M10JNEAC; Resistance tolerance: +/-5%; Supply 1 Name: Mouser; Supply 1 SN: 71-CRCW0805J-1.1M; Supply 2 Name: Digi-Key; Supply 2 SN: CRCW08051M10JNEAC-ND; Supply 3 Name: Thegioiic; Size: 0805; Mounting Technology: SMT; Rated Power: 1/8 W; Datasheet: https://www.vishay.com/docs/28773/crcwce3.pdf; Resistance: 1.1M; Supply 1 URL: https://www.mouser.vn/ProductDetail/Vishay-Dale/CRCW08051M10JNTA?qs=5w%2FwobBlTbKF7Ocr2yYivA%3D%3D; Supply 2 URL: https://www.digikey.com/en/products/detail/vishay-dale/CRCW08051M10JNEAC/7923848; Supply 3 SN: N/A; Supply 3 URL: https://www.thegioiic.com/dien-tro-1-1-mohm-0805-5
footprint RESISTOR_0805 (Chip Resistor, 2-Leads, Body 2,00x1,20mm, IPC Medium Density)
pins: 1, 2

## 0008051201
designator R?, comment 12, 1/8W
RES, 12 Ohm, size 0805, 1%; Manufacture  Name: Vishay Dale; Manufacture  SN: CRCW080512R0FKEA; Resistance tolerance: +/-1%; Resistance: 12; Supply 1 Name: Mouser; Supply 1 SN: 71-CRCW080512R0FKEA; Supply 2 Name: Digi-Key; Supply 2 SN: 541-12.0CTR-ND; Supply 3 Name: Thegioiic; Size: 0805; Mounting Technology: SMT; Rated Power: 1/8 W; Datasheet: N/A; Supply 1 URL: https://www.mouser.vn/ProductDetail/Vishay-Dale/CRCW080512R0FKEA?qs=0y7Riw94L4im3ZmXAo%252BFfQ%3D%3D; Supply 2 URL: https://www.digikey.com/en/products/detail/vishay-dale/CRCW080512R0FKEA/1175417; Supply 3 SN: N/A; Supply 3 URL: https://www.thegioiic.com/dien-tro-12-ohm-0805-1-
footprint RESISTOR_0805 (Chip Resistor, 2-Leads, Body 2,00x1,20mm, IPC Medium Density)
pins: 1, 2

## 0008051205
designator R?, comment 12, 1/8W
RES, 12 Ohm, size 0805, 5%; Manufacture  Name: Vishay Dale; Manufacture  SN: CRCW080512R0JNEA; Resistance tolerance: +/-5%; Resistance: 12; Supply 1 Name: Mouser; Supply 1 SN: 71-CRCW080512R0JNEA; Supply 2 Name: Digi-Key; Supply 2 SN: 541-12ATR-ND; Supply 3 Name: Thegioiic; Size: 0805; Mounting Technology: SMT; Rated Power: 1/8 W; Datasheet: https://www.vishay.com/docs/20035/dcrcwe3.pdf; Supply 1 URL: https://www.mouser.vn/ProductDetail/Vishay-Dale/CRCW080512R0JNEA?qs=0y7Riw94L4hpzrfVlTNTMg%3D%3D; Supply 2 URL: https://www.digikey.com/en/products/detail/vishay-dale/CRCW080512R0JNEA/1175152; Supply 3 SN: N/A; Supply 3 URL: https://www.thegioiic.com/dien-tro-1-1-mohm-0805-5
footprint RESISTOR_0805 (Chip Resistor, 2-Leads, Body 2,00x1,20mm, IPC Medium Density)
pins: 1, 2

## 0008051211
designator R?, comment 120, 1/8W
RES, 120 Ohm, size 0805, 1%; Manufacture  Name: Vishay Dale; Manufacture  SN: CRCW0805120RFKEAC; Resistance tolerance: +/-1%; Resistance: 120; Supply 1 Name: Mouser; Supply 1 SN: 71-CRCW0805120RFKEAC; Supply 2 Name: Digi-Key; Supply 2 SN: 541-CRCW0805120RFKEACTR-ND; Supply 3 Name: Thegioiic; Size: 0805; Mounting Technology: SMT; Rated Power: 1/8 W; Datasheet: https://www.vishay.com/docs/28773/crcwce3.pdf; Supply 1 URL: https://www.mouser.vn/ProductDetail/Vishay-Dale/CRCW0805120RFKEAC?qs=E3Y5ESvWgWNkSFxCW%252BJprQ%3D%3D; Supply 2 URL: https://www.digikey.com/en/products/detail/vishay-dale/CRCW0805120RFKEAC/7922316; Supply 3 SN: N/A; Supply 3 URL: N/A
footprint RESISTOR_0805 (Chip Resistor, 2-Leads, Body 2,00x1,20mm, IPC Medium Density)
pins: 1, 2

## 0008051215
designator R?, comment 120, 1/8W
RES, 120 Ohm, size 0805, 5%; Manufacture  Name: Vishay Dale; Manufacture  SN: CRCW0805120RJNEA; Resistance tolerance: +/-5%; Resistance: 120; Supply 1 Name: Mouser; Supply 1 SN: 71-CRCW0805120RJNEA; Supply 2 Name: Digi-Key; Supply 2 SN: 541-120ATR-ND; Supply 3 Name: Thegioiic; Size: 0805; Mounting Technology: SMT; Rated Power: 1/8 W; Datasheet: https://www.vishay.com/docs/20035/dcrcwe3.pdf; Supply 1 URL: https://www.mouser.vn/ProductDetail/Vishay-Dale/CRCW0805120RJNEA?qs=RG5hTW80OZL%252BSuUGN6l0YA%3D%3D; Supply 2 URL: https://www.digikey.com/en/products/detail/vishay-dale/CRCW0805120RJNEA/1175176; Supply 3 SN: N/A; Supply 3 URL: https://www.thegioiic.com/dien-tro-120-ohm-0805-5-
footprint RESISTOR_0805 (Chip Resistor, 2-Leads, Body 2,00x1,20mm, IPC Medium Density)
pins: 1, 2

## 0008051221
designator R?, comment 1.2k, 1/8W
RES, 1.2k Ohm, size 0805, 1%; Manufacture  Name: Vishay Dale; Manufacture  SN: CRCW08051K20FKEAC; Resistance tolerance: +/-1%; Supply 1 Name: Mouser; Supply 1 SN: 71-CRCW0805-1.2K; Supply 2 Name: Digi-Key; Supply 2 SN: 541-CRCW08051K20FKEACTR-ND; Supply 3 Name: Thegioiic; Size: 0805; Mounting Technology: SMT; Rated Power: 1/8 W; Datasheet: https://www.vishay.com/docs/28773/crcwce3.pdf; Resistance: 1.2k; Supply 1 URL: https://www.mouser.vn/ProductDetail/Vishay-Dale/CRCW08051K20FKTA?qs=xLmuQgtoMPPFT9OsB3td2Q%3D%3D; Supply 2 URL: https://www.digikey.com/en/products/detail/vishay-dale/CRCW08051K20FKEAC/7922327; Supply 3 SN: N/A; Supply 3 URL: https://www.thegioiic.com/dien-tro-1-2-kohm-0805-1-
footprint RESISTOR_0805 (Chip Resistor, 2-Leads, Body 2,00x1,20mm, IPC Medium Density)
pins: 1, 2

## 0008051225
designator R?, comment 1.2k, 1/8W
RES, 1.2k Ohm, size 0805, 5%; Manufacture  Name: Vishay Dale; Manufacture  SN: CRCW08051K20JNEA; Resistance tolerance: +/-5%; Supply 1 Name: Mouser; Supply 1 SN: 71-CRCW0805J-1.2K; Supply 2 Name: Digi-Key; Supply 2 SN: 541-1.2KATR-ND; Supply 3 Name: Thegioiic; Size: 0805; Mounting Technology: SMT; Rated Power: 1/8 W; Datasheet: https://www.vishay.com/docs/20035/dcrcwe3.pdf; Resistance: 1.2k; Supply 1 URL: https://www.mouser.vn/ProductDetail/Vishay-Dale/CRCW08051K20JNTA?qs=ihJ2iVknB9v1dN2NZA89OA%3D%3D; Supply 2 URL: https://www.digikey.com/en/products/detail/vishay-dale/CRCW08051K20JNEA/1175200; Supply 3 SN: N/A; Supply 3 URL: https://www.thegioiic.com/dien-tro-1-2-kohm-0805-5
footprint RESISTOR_0805 (Chip Resistor, 2-Leads, Body 2,00x1,20mm, IPC Medium Density)
pins: 1, 2

## 0008051231
designator R?, comment 12k, 1/8W
RES, 12k Ohm, size 0805, 1%; Manufacture  Name: Vishay Dale; Manufacture  SN: CRCW080512K0FKEAC; Resistance tolerance: +/-1%; Supply 1 Name: Mouser; Supply 1 SN: 71-CRCW080512K0FKEA; Supply 2 Name: Digi-Key; Supply 2 SN: 541-CRCW080512K0FKEACTR-ND; Supply 3 Name: Thegioiic; Size: 0805; Mounting Technology: SMT; Rated Power: 1/8 W; Datasheet: https://www.vishay.com/docs/28773/crcwce3.pdf; Resistance: 12k; Supply 1 URL: https://www.mouser.vn/ProductDetail/Vishay-Dale/CRCW080512K0FKEA?qs=0y7Riw94L4gQIm4gt5oa2A%3D%3D; Supply 2 URL: https://www.digikey.com/en/products/detail/vishay-dale/CRCW080512K0FKEAC/7922348; Supply 3 SN: N/A; Supply 3 URL: https://www.thegioiic.com/dien-tro-12-kohm-0805-1
footprint RESISTOR_0805 (Chip Resistor, 2-Leads, Body 2,00x1,20mm, IPC Medium Density)
pins: 1, 2

## 0008051235
designator R?, comment 12k, 1/8W
RES, 12k Ohm, size 0805, 5%; Manufacture  Name: Vishay Dale; Manufacture  SN: CRCW080512K0FKEAC; Resistance tolerance: +/-5%; Supply 1 Name: Mouser; Supply 1 SN: 71-CRCW080512K0JNEA; Supply 2 Name: Digi-Key; Supply 2 SN: 541-12KATR-ND; Supply 3 Name: Thegioiic; Size: 0805; Mounting Technology: SMT; Rated Power: 1/8 W; Datasheet: https://www.vishay.com/docs/20035/dcrcwe3.pdf; Resistance: 12k; Supply 1 URL: https://www.mouser.vn/ProductDetail/Vishay-Dale/CRCW080512K0JNEA?qs=0y7Riw94L4j20XDG43nIlg%3D%3D; Supply 2 URL: https://www.digikey.com/en/products/detail/vishay-dale/CRCW080512K0JNEA/1175224; Supply 3 SN: N/A; Supply 3 URL: https://www.vishay.com/docs/20035/dcrcwe3.pdf
footprint RESISTOR_0805 (Chip Resistor, 2-Leads, Body 2,00x1,20mm, IPC Medium Density)
pins: 1, 2

## 0008051241
designator R?, comment 120k, 1/8W
RES, 120k Ohm, size 0805, 1%; Manufacture  Name: Vishay Dale; Manufacture  SN: CRCW0805120KFKEB; Resistance tolerance: +/-1%; Supply 1 Name: Mouser; Supply 1 SN: 71-CRCW0805120KFKEAC; Supply 2 Name: Digi-Key; Supply 2 SN: 541-CRCW0805120KFKEBTR-ND; Supply 3 Name: Thegioiic; Size: 0805; Mounting Technology: SMT; Rated Power: 1/8 W; Datasheet: https://www.vishay.com/docs/20035/dcrcwe3.pdf; Resistance: 120k; Supply 1 URL: https://www.mouser.vn/ProductDetail/Vishay-Dale/CRCW0805120KFKEAC?qs=E3Y5ESvWgWPz1L64z3fNYQ%3D%3D; Supply 2 URL: https://www.digikey.com/en/products/detail/vishay-dale/CRCW0805120KFKEB/5073706; Supply 3 SN: N/A; Supply 3 URL: N/A
footprint RESISTOR_0805 (Chip Resistor, 2-Leads, Body 2,00x1,20mm, IPC Medium Density)
pins: 1, 2

## 0008051245
designator R?, comment 120k, 1/8W
RES, 120k Ohm, size 0805, 5%; Manufacture  Name: Vishay Dale; Manufacture  SN: CRCW0805120KJNEA; Resistance tolerance: +/-5%; Supply 1 Name: Mouser; Supply 1 SN: 71-CRCW0805120KJNEA; Supply 2 Name: Digi-Key; Supply 2 SN: 541-120KATR-ND; Supply 3 Name: Thegioiic; Size: 0805; Mounting Technology: SMT; Rated Power: 1/8 W; Datasheet: https://www.vishay.com/docs/20035/dcrcwe3.pdf; Resistance: 120k; Supply 1 URL: https://www.mouser.vn/ProductDetail/Vishay-Dale/CRCW0805120KJNEA?qs=RG5hTW80OZISYDThER7IDg%3D%3D; Supply 2 URL: https://www.digikey.com/en/products/detail/vishay-dale/CRCW0805120KJNEA/1175248; Supply 3 SN: N/A; Supply 3 URL: https://www.thegioiic.com/dien-tro-120-kohm-0805-5
footprint RESISTOR_0805 (Chip Resistor, 2-Leads, Body 2,00x1,20mm, IPC Medium Density)
pins: 1, 2

## 0008051251
designator R?, comment 1.2M, 1/8W
RES, 1.2M Ohm, size 0805, 1%; Manufacture  Name: Vishay Dale; Manufacture  SN: CRCW08051M20FKEA; Resistance tolerance: +/-1%; Supply 1 Name: Mouser; Supply 1 SN: 71-CRCW08051M20FKEA; Supply 2 Name: Digi-Key; Supply 2 SN: 541-1.20MCTR-ND; Supply 3 Name: Thegioiic; Size: 0805; Mounting Technology: SMT; Rated Power: 1/8 W; Datasheet: https://www.vishay.com/docs/20035/dcrcwe3.pdf; Resistance: 1.2M; Supply 1 URL: https://www.mouser.vn/ProductDetail/Vishay-Dale/CRCW08051M20FKEA?qs=uQdQW2oKfUVC5dKjGtshLg%3D%3D; Supply 2 URL: https://www.digikey.com/en/products/detail/vishay-dale/CRCW08051M20FKEA/1176024; Supply 3 SN: N/A; Supply 3 URL: N/A
footprint RESISTOR_0805 (Chip Resistor, 2-Leads, Body 2,00x1,20mm, IPC Medium Density)
pins: 1, 2

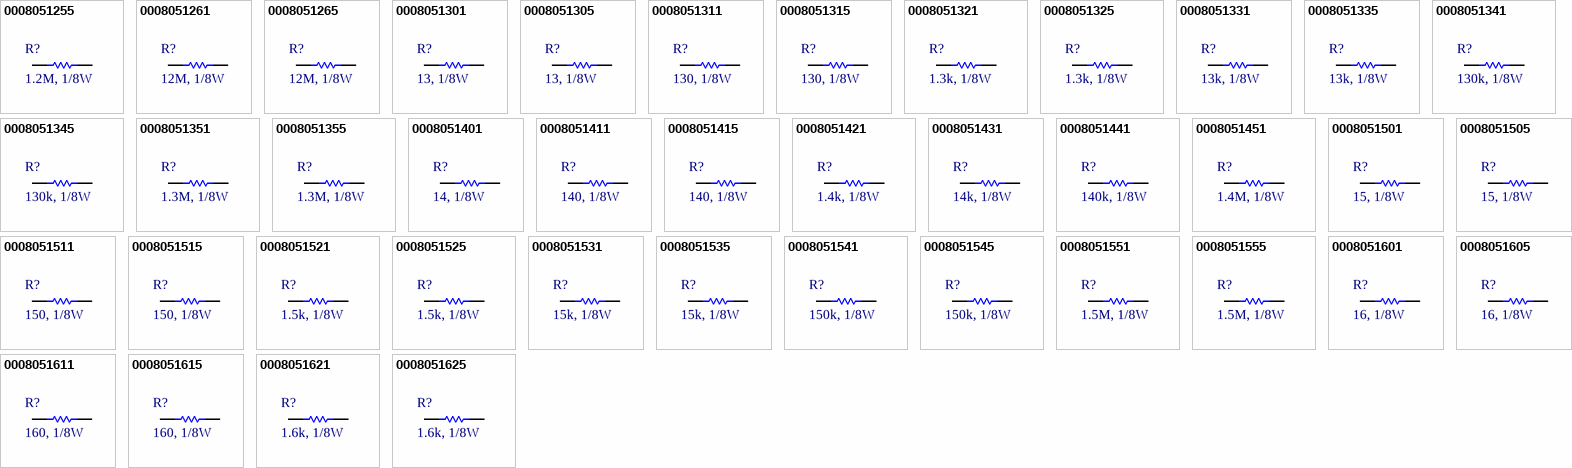
[diagram p7: symbols 0008051255 to 0008051625]

## 0008051255
designator R?, comment 1.2M, 1/8W
RES, 1.2M Ohm, size 0805, 5%; Manufacture  Name: Vishay Dale; Manufacture  SN: CRCW08051M20JNEA; Resistance tolerance: +/-5%; Supply 1 Name: Mouser; Supply 1 SN: 71-CRCW08051M20JNEA; Supply 2 Name: Digi-Key; Supply 2 SN: 541-1.2MATR-ND; Supply 3 Name: Thegioiic; Size: 0805; Mounting Technology: SMT; Rated Power: 1/8 W; Datasheet: https://www.vishay.com/docs/20035/dcrcwe3.pdf; Resistance: 1.2M; Supply 1 URL: https://www.mouser.vn/ProductDetail/Vishay-Dale/CRCW08051M20JNEA?qs=1CkV0QOCgMrKOwOc4yedvw%3D%3D; Supply 2 URL: https://www.digikey.com/en/products/detail/vishay-dale/CRCW08051M20JNEA/1175272; Supply 3 SN: N/A; Supply 3 URL: https://www.thegioiic.com/dien-tro-1-2-mohm-0805-5
footprint RESISTOR_0805 (Chip Resistor, 2-Leads, Body 2,00x1,20mm, IPC Medium Density)
pins: 1, 2

## 0008051261
designator R?, comment 12M, 1/8W
RES, 12M Ohm, size 0805, 1%; Resistance tolerance: +/-1%; Resistance: 12.4M; Supply 1 Name: Mouser; Supply 2 Name: Digi-Key; Supply 2 SN: 2679-CR0805-8W-1245FTTR-ND; Supply 3 Name: Thegioiic; Size: 0805; Mounting Technology: SMT; Rated Power: 1/8 W; Datasheet: N/A; Supply 1 SN: N/A; Supply 1 URL: N/A; Supply 2 URL: https://www.digikey.com/en/products/detail/venkel/CR0805-8W-1245FT/12332325?s=N4IgjCBcoExaBjKAzAhgGwM4FMA0IB7KAbXAAYAOAdgE4QBdfABwBcoQBlFgJwEsA7AOYgAvvgDM8EEkhoseQiXBhxERiFbsufIaPxgYNCNGkoMOfEUilxNcTAoNmbSJx4DhYkDEoBWKTJyForW4DAAdAAsAAQAsgDyABYAtphOGi4gAKr8vCzxyLHYqJgArtzYeiAAtMaIZvKWSr6REPgwAGy0IPi%2BHQwig0A; Supply 3 SN: N/A; Supply 3 URL: N/A; Manufacture  Name: N/A; Manufacture  SN: N/A
footprint RESISTOR_0805 (Chip Resistor, 2-Leads, Body 2,00x1,20mm, IPC Medium Density)
pins: 1, 2

## 0008051265
designator R?, comment 12M, 1/8W
RES, 12M Ohm, size 0805, 5%; Resistance tolerance: +/-5%; Supply 1 Name: Mouser; Supply 2 Name: Digi-Key; Supply 2 SN: CRCW080512M0JPEAHR-ND; Supply 3 Name: Thegioiic; Size: 0805; Mounting Technology: SMT; Rated Power: 1/8 W; Datasheet: N/A; Resistance: 12M; Supply 1 SN: N/A; Supply 1 URL: N/A; Supply 2 URL: https://www.digikey.com/en/products/detail/vishay-dale/CRCW080512M0JPEAHR/5073763?s=N4IgjCBcoExaBjKAzAhgGwM4FMA0IB7KAbXAAYAOAdgE4QBdfABwBcoQBlFgJwEsA7AOYgAvvgDM8EEkhoseQiRAwArGUmMQrdlz5DR%2BMDBoRo0lBhz4ikUuJriYFBszaROPAcLHLKKqTJyVoq24DAABACyAPIAFgC2mC5abiAAqvy8LNHIkdiomACu3NgGIAC0pogW8tZKKgAsEPQirUA; Supply 3 SN: N/A; Supply 3 URL: N/A; Manufacture  Name: N/A; Manufacture  SN: N/A
footprint RESISTOR_0805 (Chip Resistor, 2-Leads, Body 2,00x1,20mm, IPC Medium Density)
pins: 1, 2

## 0008051301
designator R?, comment 13, 1/8W
RES, 13 Ohm, size 0805, 1%; Manufacture  Name: Vishay Dale; Manufacture  SN: CRCW080513R0FKEA; Resistance tolerance: +/-1%; Resistance: 13; Supply 1 Name: Mouser; Supply 1 SN: 71-CRCW0805-13; Supply 2 Name: Digi-Key; Supply 2 SN: 541-13.0CTR-ND; Supply 3 Name: Thegioiic; Size: 0805; Mounting Technology: SMT; Rated Power: 1/8 W; Datasheet: https://www.vishay.com/docs/20035/dcrcwe3.pdf; Supply 1 URL: https://www.mouser.vn/ProductDetail/Vishay-Dale/CRCW080513R0FKTA?qs=ZOFh%252BZEbFTD7SfeHjm78bA%3D%3D; Supply 2 URL: https://www.digikey.com/en/products/detail/vishay-dale/CRCW080513R0FKEA/1175421; Supply 3 SN: N/A; Supply 3 URL: https://www.mouser.vn/ProductDetail/Vishay-Dale/CRCW080513R0FKTA?qs=ZOFh%252BZEbFTD7SfeHjm78bA%3D%3D
footprint RESISTOR_0805 (Chip Resistor, 2-Leads, Body 2,00x1,20mm, IPC Medium Density)
pins: 1, 2

## 0008051305
designator R?, comment 13, 1/8W
RES, 13 Ohm, size 0805, 5%; Manufacture  Name: Vishay Dale; Manufacture  SN: CRCW080513R0JNEA; Resistance tolerance: +/-5%; Resistance: 13; Supply 1 Name: Mouser; Supply 1 SN: 71-CRCW080513R0JNEA; Supply 2 Name: Digi-Key; Supply 2 SN: 541-13.0CTR-ND; Supply 3 Name: Thegioiic; Size: 0805; Mounting Technology: SMT; Rated Power: 1/8 W; Datasheet: https://www.vishay.com/docs/20035/dcrcwe3.pdf; Supply 1 URL: https://www.mouser.vn/ProductDetail/Vishay-Dale/CRCW080513R0JNEA?qs=0y7Riw94L4g6KLaYV7LaYA%3D%3D; Supply 2 URL: https://www.digikey.com/en/products/detail/vishay-dale/CRCW080513R0JNEA/1175153; Supply 3 SN: N/A; Supply 3 URL: https://www.thegioiic.com/dien-tro-13-ohm-0805-5-
footprint RESISTOR_0805 (Chip Resistor, 2-Leads, Body 2,00x1,20mm, IPC Medium Density)
pins: 1, 2

## 0008051311
designator R?, comment 130, 1/8W
RES, 130 Ohm, size 0805, 1%; Manufacture  Name: Vishay Dale; Manufacture  SN: CRCW0805130RFKEA; Resistance tolerance: +/-1%; Resistance: 130; Supply 1 Name: Mouser; Supply 1 SN: 71-CRCW0805-130; Supply 2 Name: Digi-Key; Supply 2 SN: 541-130CTR-ND; Supply 3 Name: Thegioiic; Size: 0805; Mounting Technology: SMT; Rated Power: 1/8 W; Datasheet: https://www.vishay.com/docs/20035/dcrcwe3.pdf; Supply 1 URL: https://www.mouser.vn/ProductDetail/Vishay-Dale/CRCW0805130RFKTA?qs=giVM%252B3aTMKxKqHz68BaXog%3D%3D; Supply 2 URL: https://www.digikey.com/en/products/detail/vishay-dale/CRCW0805130RFKEA/1175535; Supply 3 SN: N/A; Supply 3 URL: N/A
footprint RESISTOR_0805 (Chip Resistor, 2-Leads, Body 2,00x1,20mm, IPC Medium Density)
pins: 1, 2

## 0008051315
designator R?, comment 130, 1/8W
RES, 130 Ohm, size 0805, 5%; Manufacture  Name: Vishay Dale; Manufacture  SN: CRCW0805130RFKEA; Resistance tolerance: +/-5%; Resistance: 130; Supply 1 Name: Mouser; Supply 1 SN: 71-CRCW0805130RJNEA; Supply 2 Name: Digi-Key; Supply 2 SN: 541-130ATR-ND; Supply 3 Name: Thegioiic; Size: 0805; Mounting Technology: SMT; Rated Power: 1/8 W; Datasheet: https://www.vishay.com/docs/20035/dcrcwe3.pdf; Supply 1 URL: https://www.mouser.vn/ProductDetail/Vishay-Dale/CRCW0805130RJNEA?qs=0y7Riw94L4hSzyuZjO1BEg%3D%3D; Supply 2 URL: https://www.digikey.com/en/products/detail/vishay-dale/CRCW0805130RJNEA/1175177; Supply 3 SN: N/A; Supply 3 URL: https://www.thegioiic.com/dien-tro-130-ohm-0805-5
footprint RESISTOR_0805 (Chip Resistor, 2-Leads, Body 2,00x1,20mm, IPC Medium Density)
pins: 1, 2

## 0008051321
designator R?, comment 1.3k, 1/8W
RES, 1.3k Ohm, size 0805, 1%; Manufacture  Name: Vishay Dale; Manufacture  SN: CRCW08051K30FKEA; Resistance tolerance: +/-1%; Supply 1 Name: Mouser; Supply 1 SN: 71-CRCW0805-1.3K-E3; Supply 2 Name: Digi-Key; Supply 2 SN: 541-1.30KCTR-ND; Supply 3 Name: Thegioiic; Size: 0805; Mounting Technology: SMT; Rated Power: 1/8 W; Datasheet: https://www.vishay.com/docs/20035/dcrcwe3.pdf; Resistance: 1.3k; Supply 1 URL: https://www.mouser.vn/ProductDetail/Vishay-Dale/CRCW08051K30FKEA?qs=DZvKvnD5UYWy1USUvWuhZQ%3D%3D; Supply 2 URL: https://www.digikey.com/en/products/detail/vishay-dale/CRCW08051K30FKEA/1175649; Supply 3 SN: N/A; Supply 3 URL: N/A
footprint RESISTOR_0805 (Chip Resistor, 2-Leads, Body 2,00x1,20mm, IPC Medium Density)
pins: 1, 2

## 0008051325
designator R?, comment 1.3k, 1/8W
RES, 1.3k Ohm, size 0805, 5%; Manufacture  Name: Vishay Dale; Manufacture  SN: CRCW08051K30JNEA; Resistance tolerance: +/-5%; Supply 1 Name: Mouser; Supply 1 SN: 71-CRCW08051K30JNEA; Supply 2 Name: Digi-Key; Supply 2 SN: 541-1.3KATR-ND; Supply 3 Name: Thegioiic; Size: 0805; Mounting Technology: SMT; Rated Power: 1/8 W; Datasheet: https://www.vishay.com/docs/20035/dcrcwe3.pdf; Resistance: 1.3k; Supply 1 URL: https://www.mouser.vn/ProductDetail/Vishay-Dale/CRCW08051K30JNEA?qs=DZvKvnD5UYXM63M39f9SOw%3D%3D; Supply 2 URL: https://www.digikey.com/en/products/detail/vishay-dale/CRCW08051K30JNEA/1175201; Supply 3 SN: N/A; Supply 3 URL: https://www.thegioiic.com/dien-tro-1-3-kohm-0805-5
footprint RESISTOR_0805 (Chip Resistor, 2-Leads, Body 2,00x1,20mm, IPC Medium Density)
pins: 1, 2

## 0008051331
designator R?, comment 13k, 1/8W
RES, 13k Ohm, size 0805, 1%; Manufacture  Name: Vishay Dale; Manufacture  SN: CRCW080513K0FKEA; Resistance tolerance: +/-1%; Supply 1 Name: Mouser; Supply 1 SN: 71-CRCW080513K0FKEAC; Supply 2 Name: Digi-Key; Supply 2 SN: 541-13.0KCTR-ND; Supply 3 Name: Thegioiic; Size: 0805; Mounting Technology: SMT; Rated Power: 1/8 W; Datasheet: https://www.vishay.com/docs/20035/dcrcwe3.pdf; Resistance: 13k; Supply 1 URL: https://www.mouser.vn/ProductDetail/Vishay-Dale/CRCW080513K0FKEAC?qs=E3Y5ESvWgWPE3tvm%252BBlG8w%3D%3D; Supply 2 URL: https://www.digikey.com/en/products/detail/vishay-dale/CRCW080513K0FKEA/1175763; Supply 3 SN: N/A; Supply 3 URL: https://www.mouser.vn/ProductDetail/Vishay-Dale/CRCW08051K30FKEA?qs=DZvKvnD5UYWy1USUvWuhZQ%3D%3D
footprint RESISTOR_0805 (Chip Resistor, 2-Leads, Body 2,00x1,20mm, IPC Medium Density)
pins: 1, 2

## 0008051335
designator R?, comment 13k, 1/8W
RES, 13k Ohm, size 0805, 5%; Manufacture  Name: Vishay Dale; Manufacture  SN: CRCW080513K0JNEA; Resistance tolerance: +/-5%; Supply 1 Name: Mouser; Supply 1 SN: 71-CRCW080513K0JNEA; Supply 2 Name: Digi-Key; Supply 2 SN: 541-13KATR-ND; Supply 3 Name: Thegioiic; Size: 0805; Mounting Technology: SMT; Rated Power: 1/8 W; Datasheet: https://www.vishay.com/docs/20035/dcrcwe3.pdf; Resistance: 13k; Supply 1 URL: https://www.mouser.vn/ProductDetail/Vishay-Dale/CRCW080513K0JNEA?qs=0y7Riw94L4jwZQ%2FJsMqPzw%3D%3D; Supply 2 URL: https://www.digikey.com/en/products/detail/vishay-dale/CRCW080513K0JNEA/1175225; Supply 3 SN: N/A; Supply 3 URL: https://www.thegioiic.com/dien-tro-13-kohm-0805-5
footprint RESISTOR_0805 (Chip Resistor, 2-Leads, Body 2,00x1,20mm, IPC Medium Density)
pins: 1, 2

## 0008051341
designator R?, comment 130k, 1/8W
RES, 130k Ohm, size 0805, 1%; Manufacture  Name: Vishay Dale; Manufacture  SN: CRCW0805130KFKEAC; Resistance tolerance: +/-1%; Supply 1 Name: Mouser; Supply 1 SN: 71-CRCW0805-130K-E3; Supply 2 Name: Digi-Key; Supply 2 SN: 541-CRCW0805130KFKEACTR-ND; Supply 3 Name: Thegioiic; Size: 0805; Mounting Technology: SMT; Rated Power: 1/8 W; Datasheet: https://www.vishay.com/docs/28773/crcwce3.pdf; Resistance: 130k; Supply 1 URL: https://www.mouser.vn/ProductDetail/Vishay-Dale/CRCW0805130KFKEA?qs=0y7Riw94L4iHKWUxGOctIA%3D%3D; Supply 2 URL: https://www.digikey.com/en/products/detail/vishay-dale/CRCW0805130KFKEAC/7922604; Supply 3 SN: N/A; Supply 3 URL: https://www.thegioiic.com/dien-tro-133-kohm-0805-1-
footprint RESISTOR_0805 (Chip Resistor, 2-Leads, Body 2,00x1,20mm, IPC Medium Density)
pins: 1, 2

## 0008051345
designator R?, comment 130k, 1/8W
RES, 130k Ohm, size 0805, 5%; Manufacture  Name: Vishay Dale; Manufacture  SN: CRCW0805130KJNEA; Resistance tolerance: +/-5%; Supply 1 Name: Mouser; Supply 1 SN: 71-CRCW0805130KJNEA; Supply 2 Name: Digi-Key; Supply 2 SN: 541-130KATR-ND; Supply 3 Name: Thegioiic; Size: 0805; Mounting Technology: SMT; Rated Power: 1/8 W; Datasheet: https://www.vishay.com/docs/20035/dcrcwe3.pdf; Resistance: 130k; Supply 1 URL: https://www.mouser.vn/ProductDetail/Vishay-Dale/CRCW0805130KJNEA?qs=0y7Riw94L4hrk%2FEo6puJGw%3D%3D; Supply 2 URL: https://www.digikey.com/en/products/detail/vishay-dale/CRCW0805130KJNEA/1175249; Supply 3 SN: N/A; Supply 3 URL: https://www.thegioiic.com/dien-tro-130-kohm-0805-5
footprint RESISTOR_0805 (Chip Resistor, 2-Leads, Body 2,00x1,20mm, IPC Medium Density)
pins: 1, 2

## 0008051351
designator R?, comment 1.3M, 1/8W
RES, 1.3M Ohm, size 0805, 1%; Manufacture  Name: Vishay Dale; Manufacture  SN: CRCW08051M30FKEA; Resistance tolerance: +/-1%; Supply 1 Name: Mouser; Supply 1 SN: 71-CRCW08051M30FKEA; Supply 2 Name: Digi-Key; Supply 2 SN: 541-1.30MCTR-ND; Supply 3 Name: Thegioiic; Size: 0805; Mounting Technology: SMT; Rated Power: 1/8 W; Datasheet: https://www.vishay.com/docs/20035/dcrcwe3.pdf; Resistance: 1.3M; Supply 1 URL: https://www.mouser.vn/ProductDetail/Vishay-Dale/CRCW08051M30FKEA?qs=1CkV0QOCgMqfDDw%2F4HOy0g%3D%3D; Supply 2 URL: https://www.digikey.com/en/products/detail/vishay-dale/CRCW08051M30FKEA/1176028; Supply 3 SN: N/A; Supply 3 URL: N/A
footprint RESISTOR_0805 (Chip Resistor, 2-Leads, Body 2,00x1,20mm, IPC Medium Density)
pins: 1, 2